# EAGLE library part MA03-2 (library pogopins)
PIN HEADER
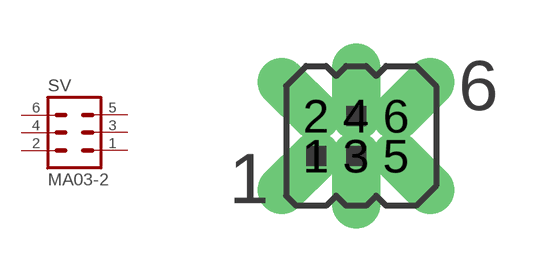
[diagram p0: symbol with the pads of MA03-2; footprint MA03-2]

Designator prefix SV

## MA03-2 (OC_FARNELL: unknown; OC_NEWARK: unknown)  [MA03-2]
1  1  pas
2  2  pas
3  3  pas
4  4  pas
5  5  pas
6  6  pas

## Footprint MA03-2 (pad centres in mm)
PIN HEADER
drill 0.7 pad 0.813 offset: 1 -1,-0.5; 2 -1,0.5; 3 0,-0.5; 4 0,0.5; 5 1,-0.5; 6 1,0.5